# EAGLE library part PINHEADER (library lstolcman_thesis)
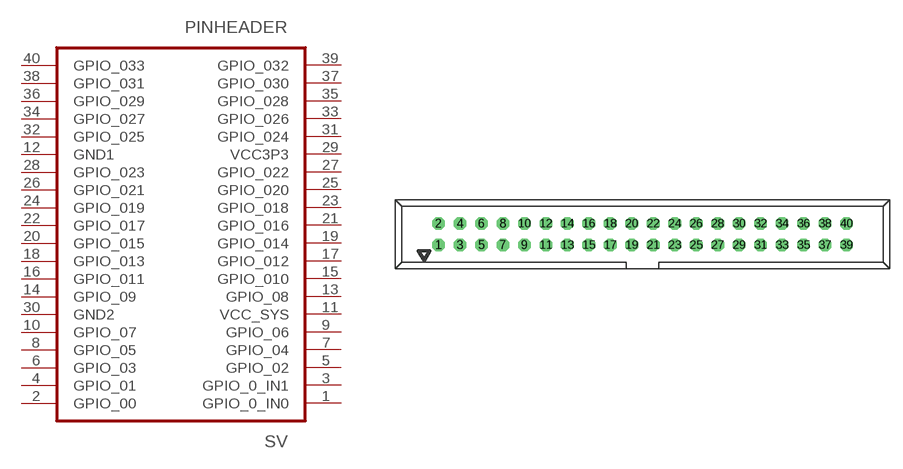
[diagram p2: symbol with the pads of 2X20; footprint 2X20]

Designator prefix SV

## PINHEADER  [2X20]
1  GPIO_0_IN0  in
2  GPIO_00
3  GPIO_0_IN1  in
4  GPIO_01
5  GPIO_02
6  GPIO_03
7  GPIO_04
8  GPIO_05
9  GPIO_06
10  GPIO_07
11  VCC_SYS  pwr
12  GND1  pwr
13  GPIO_08
14  GPIO_09
15  GPIO_010
16  GPIO_011
17  GPIO_012
18  GPIO_013
19  GPIO_014
20  GPIO_015
21  GPIO_016
22  GPIO_017
23  GPIO_018
24  GPIO_019
25  GPIO_020
26  GPIO_021
27  GPIO_022
28  GPIO_023
29  VCC3P3  pwr
30  GND2  pwr
31  GPIO_024
32  GPIO_025
33  GPIO_026
34  GPIO_027
35  GPIO_028
36  GPIO_029
37  GPIO_030
38  GPIO_031
39  GPIO_032
40  GPIO_033

## Footprint 2X20 (pad centres in mm)
drill 1 octagon: 1 -24.13,-1.27; 2 -24.13,1.27; 3 -21.59,-1.27; 4 -21.59,1.27; 5 -19.05,-1.27; 6 -19.05,1.27; 7 -16.51,-1.27; 8 -16.51,1.27; 9 -13.97,-1.27; 10 -13.97,1.27; 11 -11.43,-1.27; 12 -11.43,1.27; 13 -8.89,-1.27; 14 -8.89,1.27; 15 -6.35,-1.27; 16 -6.35,1.27; 17 -3.81,-1.27; 18 -3.81,1.27; 19 -1.27,-1.27; 20 -1.27,1.27; 21 1.27,-1.27; 22 1.27,1.27; 23 3.81,-1.27; 24 3.81,1.27; 25 6.35,-1.27; 26 6.35,1.27; 27 8.89,-1.27; 28 8.89,1.27; 29 11.43,-1.27; 30 11.43,1.27; 31 13.97,-1.27; 32 13.97,1.27; 33 16.51,-1.27; 34 16.51,1.27; 35 19.05,-1.27; 36 19.05,1.27; 37 21.59,-1.27; 38 21.59,1.27; 39 24.13,-1.27; 40 24.13,1.27